# EAGLE library part AL5802 (library tickTockLibrary)
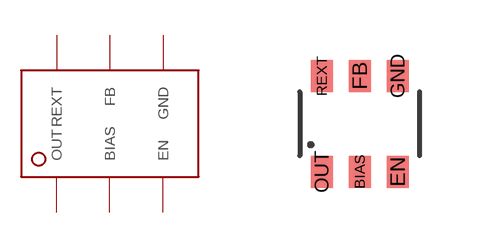
[diagram p0: symbol with the pads of AL5802; footprint AL5802]

Designator prefix -

## AL5802AL5802  [AL5802]
BIAS  BIAS
EN  EN
FB  FB
GND  GND
OUT  OUT
REXT  REXT

## Footprint AL5802 (pad centres in mm)
smd 0.55 x 0.8: BIAS 0,-1.2; EN 0.95,-1.2; FB 0,1.2; GND 0.95,1.2; OUT -0.95,-1.2; REXT -0.95,1.2